# Altium schematic symbol library SCH - DRIVER - LED - TI LM3405AXMK.SchLib: 1 symbol
Pins are listed as number, name and electrical type; pins without a type are passive.

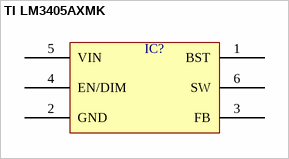
[diagram p0: symbol TI LM3405AXMK]

## TI LM3405AXMK
designator IC?  (value not drawn)
pins: 1 BST, 2 GND, 3 FB, 4 EN/DIM, 5 VIN, 6 SW